# Altium schematic symbol library TLV62568DBVR.Schlib: 1 symbol
Pins are listed as number, name and electrical type; pins without a type are passive.

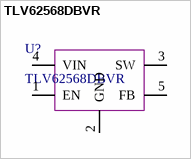
[diagram p0: symbol TLV62568DBVR]

## TLV62568DBVR
designator U?
pins: 1 EN, 2 GND, 3 SW, 4 VIN, 5 FB